# EAGLE library part RS9110-N-11-22-01 (library Neel)
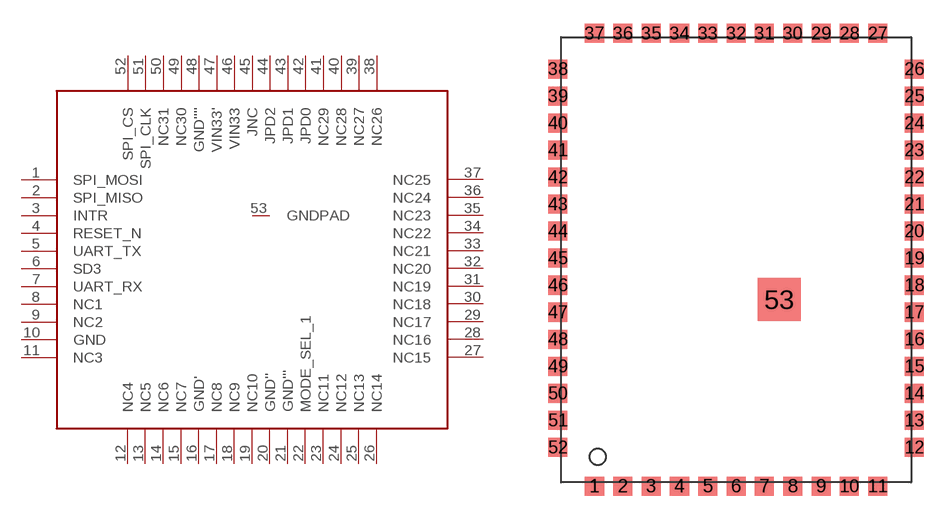
[diagram p23: symbol with the pads of RS9110-N-11-22-01; footprint RS9110-N-11-22-01]

Designator prefix -

## RS9110-N-11-22-01  [RS9110-N-11-22-01]
1  SPI_MOSI
2  SPI_MISO
3  INTR
4  RESET_N
5  UART_TX
6  SD3
7  UART_RX
8  NC1
9  NC2
10  GND
11  NC3
12  NC4
13  NC5
14  NC6
15  NC7
16  GND'
17  NC8
18  NC9
19  NC10
20  GND''
21  GND'''
22  MODE_SEL_1
23  NC11
24  NC12
25  NC13
26  NC14
27  NC15
28  NC16
29  NC17
30  NC18
31  NC19
32  NC20
33  NC21
34  NC22
35  NC23
36  NC24
37  NC25
38  NC26
39  NC27
40  NC28
41  NC29
42  JPD0
43  JPD1
44  JPD2
45  JNC
46  VIN33
47  VIN33'
48  GND''''
49  NC30
50  NC31
51  SPI_CLK
52  SPI_CS
53  GNDPAD

## Footprint RS9110-N-11-22-01 (pad centres in mm)
smd 1.2 x 1.2: 1 -8.9,-14.24; 2 -7.12,-14.24; 3 -5.34,-14.24; 4 -3.56,-14.24; 5 -1.78,-14.24; 6 0,-14.24; 7 1.78,-14.24; 8 3.56,-14.24; 9 5.34,-14.24; 10 7.12,-14.24; 11 8.9,-14.24; 12 11.2,-11.8; 13 11.2,-10.1; 14 11.2,-8.4; 15 11.2,-6.7; 16 11.2,-5; 17 11.2,-3.3; 18 11.2,-1.6; 19 11.2,0.1; 20 11.2,1.8; 21 11.2,3.5; 22 11.2,5.2; 23 11.2,6.9; 24 11.2,8.6; 25 11.2,10.3; 26 11.2,12; 27 8.9,14.24; 28 7.12,14.24; 29 5.34,14.24; 30 3.56,14.24; 31 1.78,14.24; 32 0,14.24; 33 -1.78,14.24; 34 -3.56,14.24; 35 -5.34,14.24; 36 -7.12,14.24; 37 -8.9,14.24; 38 -11.2,12; 39 -11.2,10.3; 40 -11.2,8.6; 41 -11.2,6.9; 42 -11.2,5.2; 43 -11.2,3.5; 44 -11.2,1.8; 45 -11.2,0.1; 46 -11.2,-1.6; 47 -11.2,-3.3; 48 -11.2,-5; 49 -11.2,-6.7; 50 -11.2,-8.4; 51 -11.2,-10.1; 52 -11.2,-11.8
smd 2.7 x 2.7: 53 2.7,-2.5